# Altium schematic symbol library CRL5W-33k.SchLib: 1 symbol
Pins are listed as number, name and electrical type; pins without a type are passive.

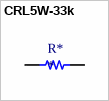
[diagram p0: symbol CRL5W-33k]

## CRL5W-33k
designator R*
footprint CRL5W-33k
pins: 1, 2